# EAGLE library part MICROSD_SOCKET_ALT (library lib_stankus)
microSD socket Farnell #2060731
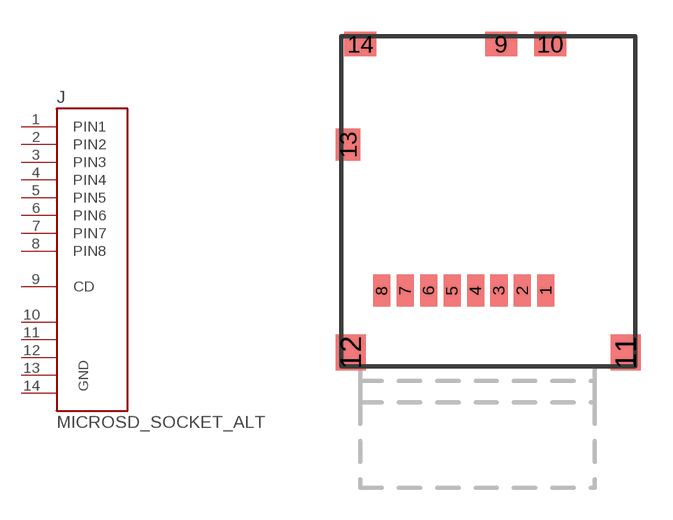
[diagram p77: symbol with the pads of MICROSD_SOCKET_ALT; footprint MICROSD_SOCKET_ALT]

Designator prefix J

## MICROSD_SOCKET_ALT  [MICROSD_SOCKET_ALT]
1  PIN1  pas
2  PIN2  pas
3  PIN3  pas
4  PIN4  pas
5  PIN5  pas
6  PIN6  pas
7  PIN7  pas
8  PIN8  pas
9  CD  pas
10  GND  pas
11  GND  pas
12  GND  pas
13  GND  pas
14  GND  pas

## Footprint MICROSD_SOCKET_ALT (pad centres in mm)
MICROSD SOCKET ALT
smd 0.8 x 1.5: 1 2.7,-4.2; 2 1.6,-4.2; 3 0.5,-4.2; 4 -0.6,-4.2; 5 -1.7,-4.2; 6 -2.8,-4.2; 7 -3.9,-4.2; 8 -5,-4.2
smd 1.5 x 1.15: 9 0.6,7.375; 10 2.9,7.375; 14 -6,7.375
smd 1.4 x 1.7: 11 6.45,-7.1; 12 -6.45,-7.1
smd 1.15 x 1.5: 13 -6.575,2.65